# Altium footprint library 155124M173200.PcbLib: 1 footprints
Each footprint in its own frame and in the unit in brackets; x right, y up, seen from the top. Pads: shape width x height; smd on the part's side, far side on the other; paste and mask are expansions set on the pad; w line width, h text height; cw(c..) or ccw(c..) is an arc to the next point about the centre after c.
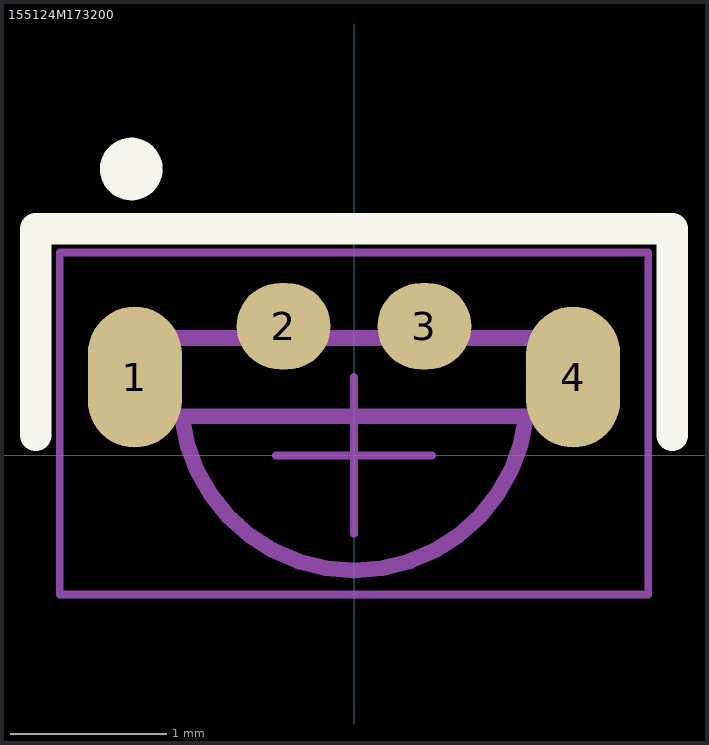
[diagram p0: the footprint, top view; thin cyan lines are the x and y axes]

## 155124M173200 [mm]
pads (4):
  oval 0.6x0.9 smd mask+0.05: 1(-1.4,0.5) 4(1.4,0.5)
  oval 0.6x0.55 smd mask+0.05: 2(-0.45,0.825) 3(0.45,0.825)
Top Overlay:
  circle w0.2: c-1.422,1.829 r0.1
  lines w0.2: -2.032,0.127 -2.032,1.448 0,1.448 2.032,1.448 2.032,0.127
Assembly Top:
  lines w0.1: -1.1,0.25 ccw(c0,0.372) 1.1,0.25 ; -1.1,0.25 -1.6,0.25 -1.6,0.75 1.6,0.75 1.6,0.25 1.1,0.25 ; -1.1,0.25 1.1,0.25
Courtyard Top:
  lines w0.05: -0.5,0 0.5,0 ; 0,-0.5 0,0.5 ; -1.88,-0.889 -1.88,1.295 1.88,1.295 1.88,-0.889 -1.88,-0.889
3D body "dioda.STEP": height 1.03, standoff 0.03, extent -1.6,-0.738 1.6,0.762